# Altium footprint library RLC_CHIP_SMD.PcbLib: 17 footprints (part 1 of 2)
Each footprint in its own frame and in the unit in brackets; x right, y up, seen from the top. Pads: shape width x height; smd on the part's side, far side on the other; paste and mask are expansions set on the pad; w line width, h text height; cw(c..) or ccw(c..) is an arc to the next point about the centre after c.
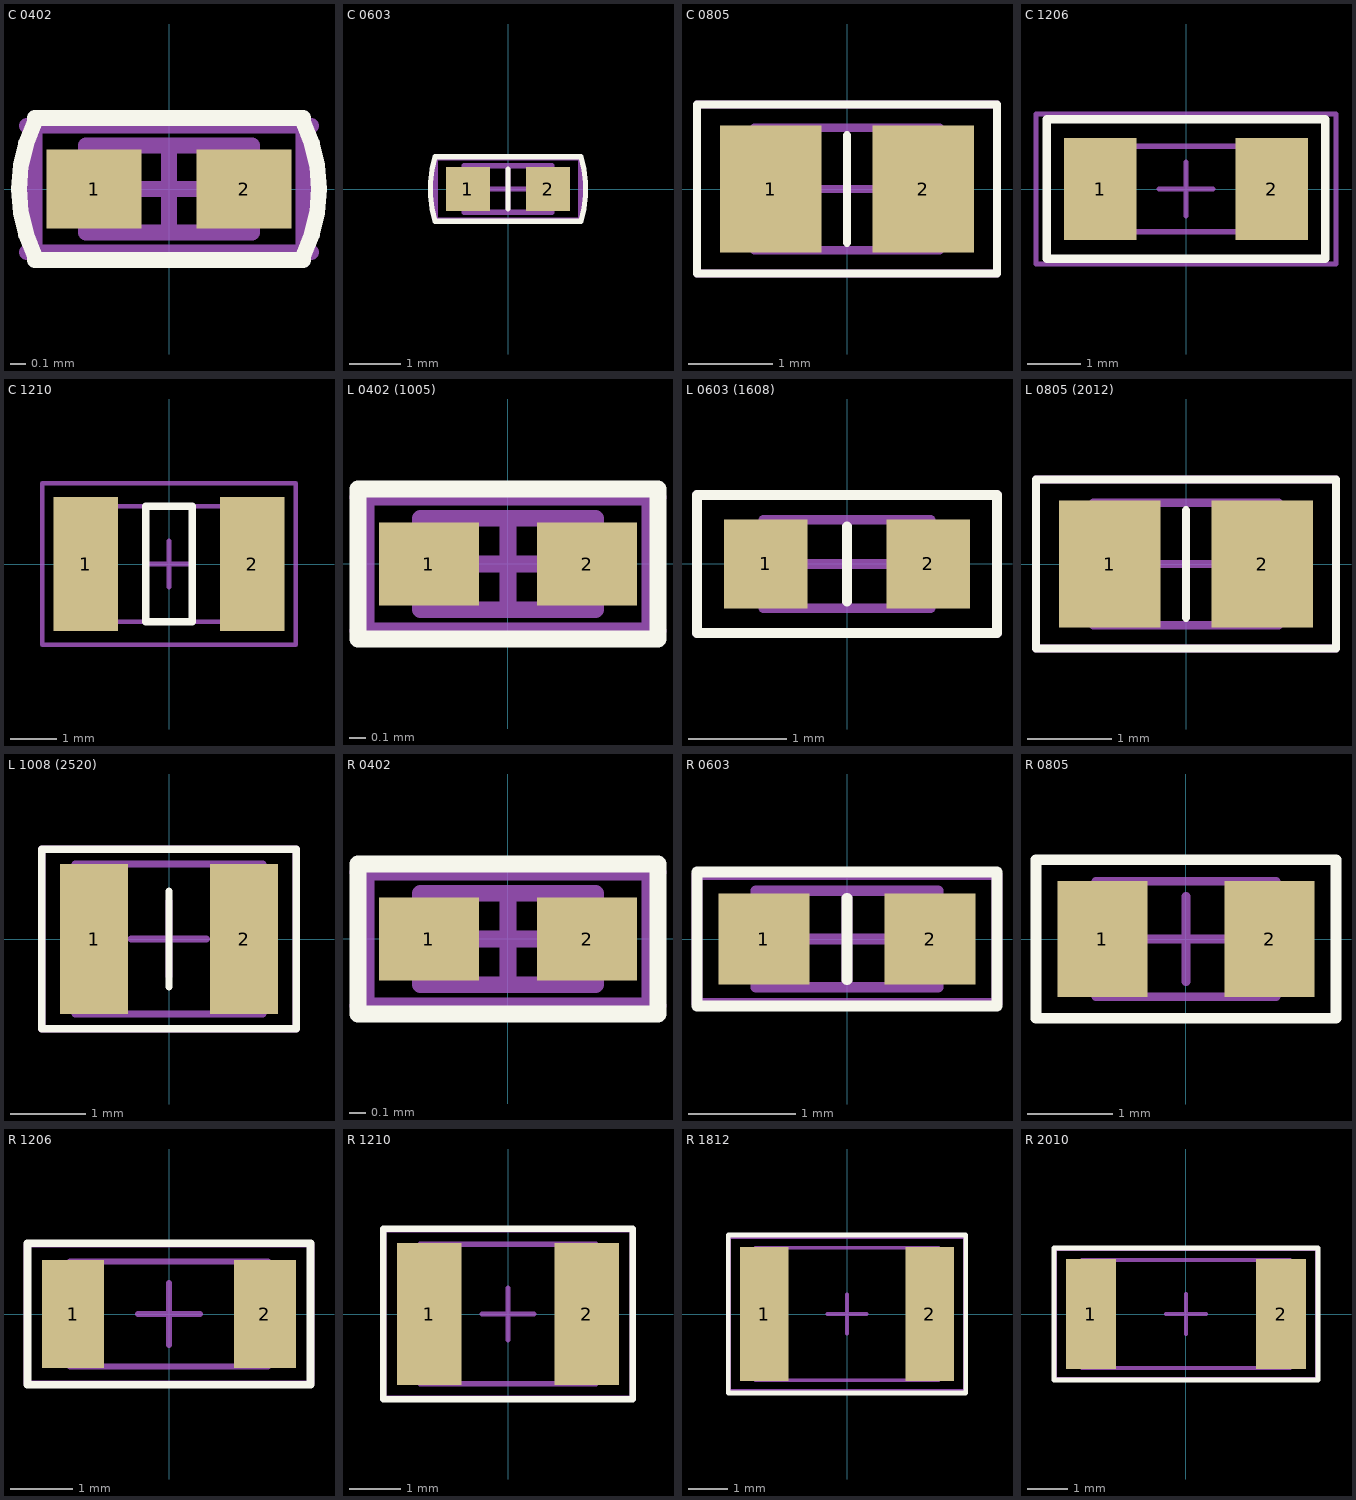
[diagram p0: the footprints below, top view; thin cyan lines are the x and y axes]

## C 0402 [mm] "Chip Capacitor, 2-Leads, Body 1.0x0.5mm, IPC Medium Density"
height 0.55
pads (2):
  rect 0.6x0.5 smd mask+0.051: 1(-0.475,0) 2(0.475,0)
Top Overlay:
  lines w0.1: -0.85,-0.45 0.85,-0.45 ; -0.85,-0.425 cw(c0,0) -0.85,0.425 ; -0.85,0.45 0.85,0.45 ; 0.85,-0.425 ccw(c0,0) 0.85,0.425
Mechanical 13:
  lines w0.1: -0.525,-0.275 -0.525,0.275 0.525,0.275 0.525,-0.275 -0.525,-0.275
Mechanical 15:
  lines w0.1: -0.9,-0.4 0.9,-0.4 ; -0.9,0.4 0.9,0.4 ; -0.85,-0.4 -0.85,0.4 ; -0.275,0 0.275,0 ; 0,-0.275 0,0.275 ; 0.85,-0.4 0.85,0.4
3D body "User Library-CAPC1005X06.step": height 0.6, standoff 0, extent -0.5,-0.25 0.5,0.25

## C 0603 [mm] "Chip Capacitor, 2-Leads, Body 1.6x0.8mm, IPC Medium Density"
height 0.8
pads (2):
  rect 0.85x0.85 smd mask+0.051: 1(-0.775,0) 2(0.775,0)
Top Overlay:
  lines w0.1: -1.41,-0.623 cw(c0.7,0) -1.41,0.623 ; -1.4,-0.625 1.4,-0.625 ; -1.4,0.625 1.4,0.625 ; 0,-0.381 0,0.381 ; 1.41,-0.623 ccw(c-0.7,0) 1.41,0.623
Mechanical 13:
  lines w0.1: -0.85,-0.45 0.85,-0.45 0.85,0.45 -0.85,0.45 -0.85,-0.45
Mechanical 15:
  lines w0.1: -0.45,0 0.45,0 ; 0,-0.45 0,0.45 ; -1.4,-0.6 1.4,-0.6 1.4,0.6 -1.4,0.6 -1.4,-0.6
3D body "User Library-Chip Capacitor2.step": height 0.81, standoff 0.01, extent -0.8,-0.432 0.8,0.428

## C 0805 [mm] "Chip Capacitor, 2-Leads, Body 2.0x1.3mm, IPC Medium Density"
height 0.85
pads (2):
  rect 1.2x1.5 smd: 1(-0.9,0) 2(0.9,0)
Top Overlay:
  lines w0.1: 0,-0.635 0,0.635 ; -1.775,-1 -1.775,1 1.775,1 1.775,-1 -1.775,-1
Mechanical 13:
  lines w0.1: -1.1,-0.725 -1.1,0.725 1.1,0.725 1.1,-0.725 -1.1,-0.725
Mechanical 15:
  lines w0.1: -0.5,0 0.5,0 ; 0,-0.5 0,0.5 ; -1.775,-1 1.775,-1 1.775,1 -1.775,1 -1.775,-1
3D body "cap 0805.step": height 0.6, standoff 0, extent -1,-0.64 1,0.61

## C 1206 [mm]
height 0.85
pads (2):
  rect 1.35x1.9 smd: 1(-1.6,0) 2(1.6,0)
Top Overlay:
  lines w0.16: -2.6,-1.3 2.6,-1.3 2.6,1.3 -2.6,1.3 -2.6,-1.3
Mechanical 13:
  lines w0.1: -1.6,-0.8 1.6,-0.8 1.6,0.8 -1.6,0.8 -1.6,-0.8
Mechanical 15:
  lines w0.1: -0.5,0 0.5,0 ; 0,-0.5 0,0.5 ; -2.8,-1.4 -2.8,1.4 2.8,1.4 2.8,-1.4 -2.8,-1.4
3D body "User Library-CR3216-1206.step": height 0.6, standoff 0, extent -1.6,-0.8 1.6,0.8

## C 1210 [mm]
height 0.85
pads (2):
  rect 1.4x2.9 smd: 1(-1.8,0) 2(1.8,0)
Top Overlay:
  lines w0.16: -0.5,-1.25 -0.5,1.25 0.5,1.25 0.5,-1.25 -0.5,-1.25
Mechanical 13:
  lines w0.1: -1.6,-1.25 -1.6,1.25 1.6,1.25 1.6,-1.25 -1.6,-1.25
Mechanical 15:
  lines w0.1: -0.5,0 0.5,0 ; 0,-0.5 0,0.5 ; -2.75,-1.75 2.75,-1.75 2.75,1.75 -2.75,1.75 -2.75,-1.75
3D body "User Library-SMD CAPACITOR.step": height 0.79, standoff 0.01, extent -1.6,-1.25 1.6,1.25

## L 0402 (1005) [mm] "Chip Capacitor, 2-Leads, Body 1.0x0.5mm, IPC Medium Density"
height 0.55
pads (2):
  rect 0.6x0.5 smd mask+0.051: 1(-0.475,0) 2(0.475,0)
Top Overlay:
  lines w0.1: -0.9,-0.45 -0.9,0.45 0.9,0.45 0.9,-0.45 -0.9,-0.45
Mechanical 13:
  lines w0.1: -0.525,-0.275 -0.525,0.275 0.525,0.275 0.525,-0.275 -0.525,-0.275
Mechanical 15:
  lines w0.1: -0.9,-0.4 0.9,-0.4 ; -0.9,0.4 0.9,0.4 ; -0.85,-0.4 -0.85,0.4 ; -0.275,0 0.275,0 ; 0,-0.275 0,0.275 ; 0.85,-0.4 0.85,0.4
3D body "User Library-Chip Inductor-L0402 (1005).step": height 0.5, standoff 0, extent -0.5,-0.3 0.5,0.3

## L 0603 (1608) [mm] "Chip Capacitor, 2-Leads, Body 1.6x0.8mm, IPC Medium Density"
height 0.8
pads (2):
  rect 0.85x0.9 smd: 1(-0.825,0) 2(0.825,0)
Top Overlay:
  lines w0.1: 0,-0.381 0,0.381 ; -1.525,-0.7 -1.525,0.7 1.525,0.7 1.525,-0.7 -1.525,-0.7
Mechanical 13:
  lines w0.1: -0.85,-0.45 -0.85,0.45 0.85,0.45 0.85,-0.45 -0.85,-0.45
Mechanical 15:
  lines w0.1: -0.45,0 0.45,0 ; 0,-0.45 0,0.45 ; -1.525,-0.7 -1.525,0.7 1.525,0.7 1.525,-0.7 -1.525,-0.7
3D body "User Library-Chip Inductor-L0603 (1608).step": height 0.8, standoff 0, extent -0.8,-0.475 0.8,0.475

## L 0805 (2012) [mm] "Chip Capacitor, 2-Leads, Body 2.0x1.3mm, IPC Medium Density"
height 0.85
pads (2):
  rect 1.2x1.5 smd: 1(-0.9,0) 2(0.9,0)
Top Overlay:
  lines w0.1: 0,-0.635 0,0.635 ; -1.775,-1 -1.775,1 1.775,1 1.775,-1 -1.775,-1
Mechanical 13:
  lines w0.1: -1.1,-0.725 -1.1,0.725 1.1,0.725 1.1,-0.725 -1.1,-0.725
Mechanical 15:
  lines w0.1: -0.5,0 0.5,0 ; 0,-0.5 0,0.5 ; -1.775,-1 1.775,-1 1.775,1 -1.775,1 -1.775,-1
3D body "User Library-Chip Inductor-L0805 (2012).step": height 0.95, standoff 0, extent -1,-0.6 1,0.6

## L 1008 (2520) [mm] "Chip Capacitor, 2-Leads, Body 2.0x1.3mm, IPC Medium Density"
height 0.85
pads (2):
  rect 0.9x2 smd: 1(-1,0) 2(1,0)
Top Overlay:
  lines w0.1: 0,-0.635 0,0.635 ; -1.7,-1.2 -1.7,1.2 1.7,1.2 1.7,-1.2 -1.7,-1.2
Mechanical 13:
  lines w0.1: -1.25,-1 -1.25,1 1.25,1 1.25,-1 -1.25,-1
Mechanical 15:
  lines w0.1: -0.5,0 0.5,0 ; 0,-0.5 0,0.5 ; -1.7,-1.2 1.7,-1.2 1.7,1.2 -1.7,1.2 -1.7,-1.2
3D body "User Library-Chip Inductor.step": height 2.2, standoff 0, extent -1.25,-1 1.25,1

## R 0402 [mm] "Chip Resistor, 2-Leads, Body 1.0x0.5mm, IPC Medium Density"
height 0.4
pads (2):
  rect 0.6x0.5 smd mask+0.051: 1(-0.475,0) 2(0.475,0)
Top Overlay:
  lines w0.1: -0.9,-0.45 -0.9,0.45 0.9,0.45 0.9,-0.45 -0.9,-0.45
Mechanical 13:
  lines w0.1: -0.525,-0.275 -0.525,0.275 0.525,0.275 0.525,-0.275 -0.525,-0.275
Mechanical 15:
  lines w0.1: -0.9,-0.4 0.9,-0.4 ; -0.9,0.4 0.9,0.4 ; -0.85,-0.4 -0.85,0.4 ; -0.275,0 0.275,0 ; 0,-0.275 0,0.275 ; 0.85,-0.4 0.85,0.4
3D body "User Library-Chip Resistor2 (1).step": height 0.4, standoff 0, extent -0.5,-0.25 0.5,0.25

## R 0603 [mm] "Chip Resistor, 2-Leads, Body 1.6x0.8mm, IPC Medium Density"
height 0.55
pads (2):
  rect 0.85x0.85 smd mask+0.051: 1(-0.775,0) 2(0.775,0)
Top Overlay:
  lines w0.1: 0,-0.381 0,0.381 ; -1.4,-0.625 -1.4,0.625 1.4,0.625 1.4,-0.625 -1.4,-0.625
Mechanical 13:
  lines w0.1: -0.85,-0.45 -0.85,0.45 0.85,0.45 0.85,-0.45 -0.85,-0.45
Mechanical 15:
  lines w0.1: -0.45,0 0.45,0 ; 0,-0.45 0,0.45 ; -1.4,-0.6 -1.4,0.6 1.4,0.6 1.4,-0.6 -1.4,-0.6
3D body "User Library-Chip Resistor2.step": height 0.5, standoff 0, extent -0.8,-0.4 0.8,0.4

## R 0805 [mm] "Chip Resistor, 2-Leads, Body 2.0x1.3mm, IPC Medium Density"
height 0.5
pads (2):
  rect 1.05x1.35 smd: 1(-0.975,0) 2(0.975,0)
Top Overlay:
  lines w0.127: -1.75,-0.925 -1.75,0.925 1.75,0.925 1.75,-0.925 -1.75,-0.925
Mechanical 13:
  lines w0.1: -1.05,-0.675 1.05,-0.675 1.05,0.675 -1.05,0.675 -1.05,-0.675
Mechanical 15:
  lines w0.1: -0.5,0 0.5,0 ; 0,-0.5 0,0.5 ; -1.75,-0.925 1.75,-0.925 1.75,0.925 -1.75,0.925 -1.75,-0.925
3D body "RESC2012X50N.step": height 0.5, standoff 0, extent -1,-0.61 1,0.59

## R 1206 [mm] "Chip Resistor, 2-Leads, Body 3.1x1.6mm, IPC Medium Density"
height 0.65
pads (2):
  rect 1x1.75 smd: 1(-1.55,0) 2(1.55,0)
Top Overlay:
  lines w0.127: -2.286,-1.143 2.286,-1.143 2.286,1.143 -2.286,1.143 -2.286,-1.143
Mechanical 13:
  lines w0.1: -1.6,-0.85 -1.6,0.85 1.6,0.85 1.6,-0.85 -1.6,-0.85
Mechanical 15:
  lines w0.1: -0.5,0 0.5,0 ; 0,-0.5 0,0.5 ; -2.3,-1.125 -2.3,1.125 2.3,1.125 2.3,-1.125 -2.3,-1.125
3D body "User Library-Chip Resistor2.step": height 0.6, standoff 0, extent -1.6,-0.8 1.6,0.8

## R 1210 [mm] "Chip Resistor, 2-Leads, Body 3.2x2.5mm, IPC Medium Density"
height 0.7
pads (2):
  rect 1.25x2.75 smd: 1(-1.525,0) 2(1.525,0)
Top Overlay:
  lines w0.127: -2.413,-1.651 2.413,-1.651 2.413,1.651 -2.413,1.651 -2.413,-1.651
Mechanical 13:
  lines w0.1: -1.7,-1.35 1.7,-1.35 1.7,1.35 -1.7,1.35 -1.7,-1.35
Mechanical 15:
  lines w0.1: -0.5,0 0.5,0 ; 0,-0.5 0,0.5 ; -2.4,-1.625 2.4,-1.625 2.4,1.625 -2.4,1.625 -2.4,-1.625
3D body "User Library-Chip Resistor2.step": height 0.7, standoff 0, extent -1.6,-1.25 1.6,1.25

## R 1812 [mm] "Chip Resistor, 2-Leads, Body 4.5x3.2mm, IPC Medium Density"
height 0.7
pads (2):
  rect 1.25x3.45 smd: 1(-2.125,0) 2(2.125,0)
Top Overlay:
  lines w0.127: -3.048,-2.032 -3.048,2.032 3.048,2.032 3.048,-2.032 -3.048,-2.032
Mechanical 13:
  lines w0.1: -2.35,-1.7 2.35,-1.7 2.35,1.7 -2.35,1.7 -2.35,-1.7
Mechanical 15:
  lines w0.1: -0.5,0 0.5,0 ; 0,-0.5 0,0.5 ; -3.025,-1.975 3.025,-1.975 3.025,1.975 -3.025,1.975 -3.025,-1.975
3D body "User Library-Chip Resistor2 (1).step": height 0.7, standoff 0, extent -2.25,-1.6 2.25,1.6

## R 2010 [mm] "Chip Resistor, 2-Leads, Body 5.0x2.5mm, IPC Medium Density"
height 0.8
pads (2):
  rect 1.25x2.75 smd: 1(-2.375,0) 2(2.375,0)
Top Overlay:
  lines w0.127: -3.302,-1.651 -3.302,1.651 3.302,1.651 3.302,-1.651 -3.302,-1.651
Mechanical 13:
  lines w0.1: -2.6,-1.35 -2.6,1.35 2.6,1.35 2.6,-1.35 -2.6,-1.35
Mechanical 15:
  lines w0.1: -0.5,0 0.5,0 ; 0,-0.5 0,0.5 ; -3.275,-1.625 -3.275,1.625 3.275,1.625 3.275,-1.625 -3.275,-1.625
3D body "User Library-Chip Resistor2 (2).step": height 0.7, standoff 0, extent -2.5,-1.25 2.5,1.25